# EAGLE library part SL-2X6G_SMD_127 (library 1_USER)
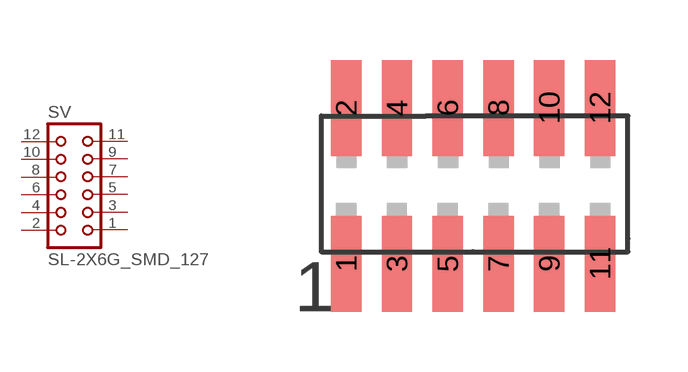
[diagram p8: symbol with the pads of SL-2X6G_SMD_127; footprint SL-2X6G_SMD_127]

Designator prefix SV

## SL-2X6G_SMD_127  [SL-2X6G_SMD_127]
1  1  pas
2  2  pas
3  3  pas
4  4  pas
5  5  pas
6  6  pas
7  7  pas
8  8  pas
9  9  pas
10  10  pas
11  11  pas
12  12  pas

## Footprint SL-2X6G_SMD_127 (pad centres in mm)
smd 0.76 x 2.4: 1 0.12,-1.9; 2 0.12,2; 3 1.39,-1.9; 4 1.39,2; 5 2.66,-1.9; 6 2.66,2; 7 3.93,-1.9; 8 3.93,2; 9 5.2,-1.9; 10 5.2,2; 11 6.47,-1.9; 12 6.47,2